# EAGLE library part CD4047BCMX (library Fairchild_By_element14_Batch_1)
Low Power Monostable/Astable Multivibrator
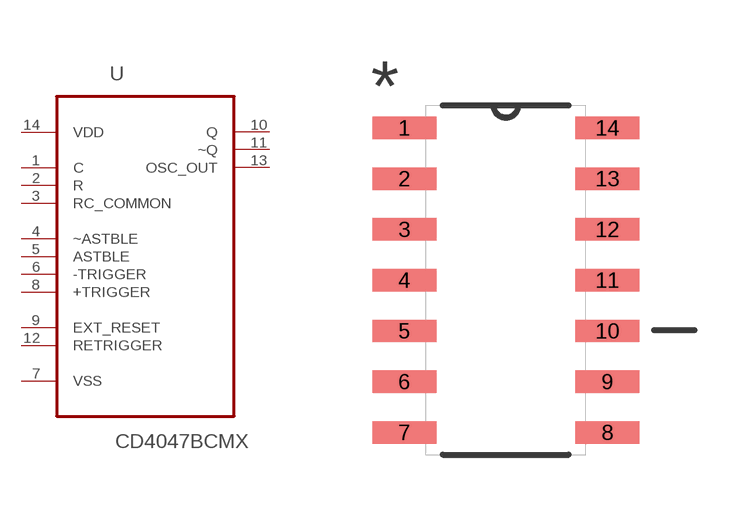
[diagram p154: symbol with the pads of SOIC127P600X175-14N; footprint SOIC127P600X175-14N]

Designator prefix U

## CD4047BCMX (MPN: CD4047BCMX; OC_FARNELL: -; OC_NEWARK: 18C6077; PACKAGE: SOIC-14; SUPPLIER: Fairchild)  [SOIC127P600X175-14N]
1  C  pas
2  R  pas
3  RC_COMMON  pas
4  ~ASTBLE  in
5  ASTBLE  in
6  -TRIGGER  in
7  VSS  pwr
8  +TRIGGER  in
9  EXT_RESET  pas
10  Q  out
11  ~Q  out
12  RETRIGGER  pas
13  OSC_OUT  out
14  VDD  pwr

## Footprint SOIC127P600X175-14N (pad centres in mm)
smd 1.6 x 0.559: 1 -2.54,3.81; 2 -2.54,2.54; 3 -2.54,1.27; 4 -2.54,0; 5 -2.54,-1.27; 6 -2.54,-2.54; 7 -2.54,-3.81; 8 2.54,-3.81; 9 2.54,-2.54; 10 2.54,-1.27; 11 2.54,0; 12 2.54,1.27; 13 2.54,2.54; 14 2.54,3.81